# Altium footprint library Infineon Power MOSFET.PcbLib: 137 footprints (part 3 of 9)
Each footprint in its own frame and in the unit in brackets; x right, y up, seen from the top. Pads: shape width x height; smd on the part's side, far side on the other; paste and mask are expansions set on the pad; w line width, h text height; cw(c..) or ccw(c..) is an arc to the next point about the centre after c.
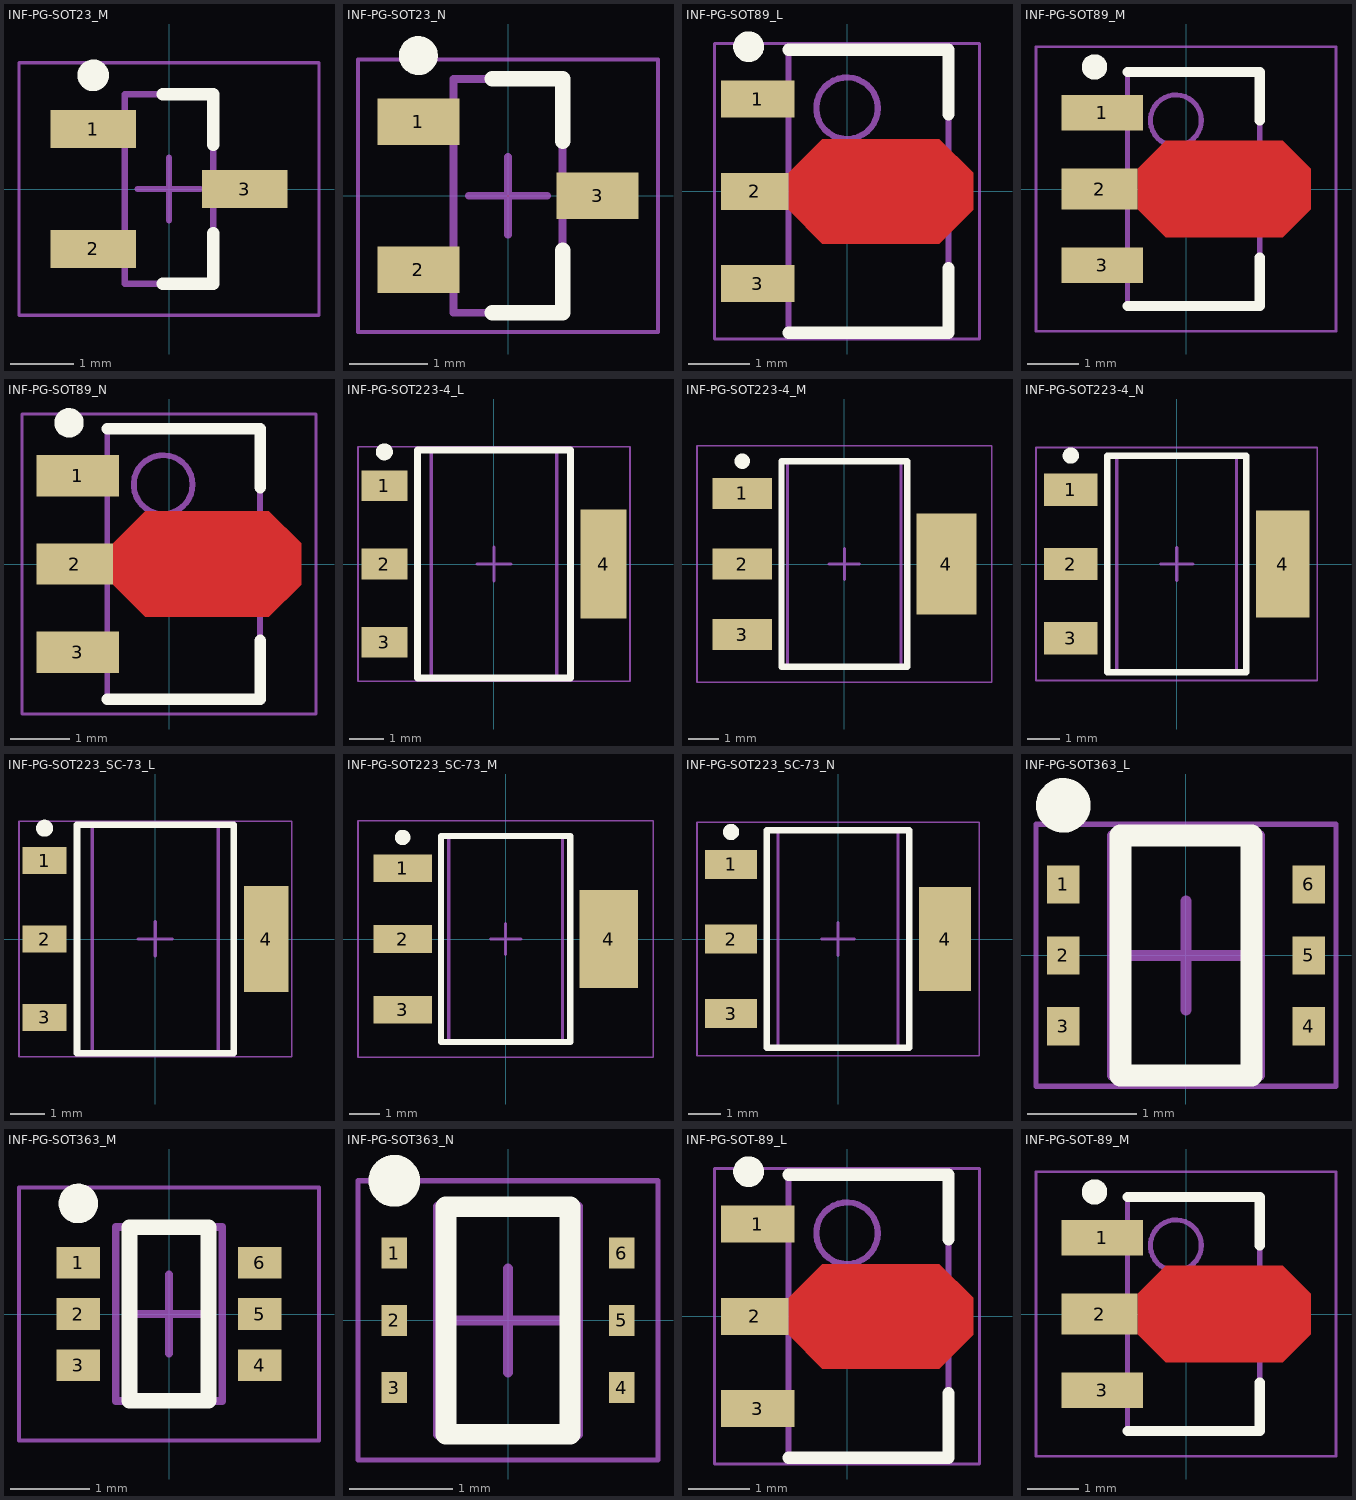
[diagram p2: the footprints below, top view; thin cyan lines are the x and y axes]

## INF-PG-SOT23_M [mm] "SOT23, 3-Leads, Body 2.9x1.3mm, Pitch 0.95mm, IPC Low Density"
height 1.1
pads (3):
  rect 1.35x0.6 smd: 1(-1.2,0.95) 2(-1.2,-0.95) 3(1.2,0)
Top Overlay:
  circle w0.25: c-1.2,1.8 r0.125
  lines w0.2: -0.1,-1.5 0.7,-1.5 0.7,-0.7 ; -0.1,1.5 0.7,1.5 0.7,0.7
Mechanical 13:
  lines w0.1: -0.7,-1.5 -0.7,1.5 0.7,1.5 0.7,-1.5 -0.7,-1.5
Mechanical 15:
  lines w0.05: -2.375,-2 -2.375,2 2.375,2 2.375,-2 -2.375,-2
  lines w0.1: -0.5,0 0.5,0 ; 0,-0.5 0,0.5
3D body: height 1.1, standoff 0.1, extent -0.7,-1.5 0.7,1.5

## INF-PG-SOT23_N [mm] "SOT23, 3-Leads, Body 2.9x1.3mm, Pitch 0.95mm, IPC Medium Density"
height 1.1
pads (3):
  rect 1.05x0.6 smd: 1(-1.15,0.95) 2(-1.15,-0.95) 3(1.15,0)
Top Overlay:
  circle w0.25: c-1.15,1.8 r0.125
  lines w0.2: -0.2,-1.5 0.7,-1.5 0.7,-0.7 ; -0.2,1.5 0.7,1.5 0.7,0.7
Mechanical 13:
  lines w0.1: -0.7,-1.5 -0.7,1.5 0.7,1.5 0.7,-1.5 -0.7,-1.5
Mechanical 15:
  lines w0.05: -1.925,-1.75 -1.925,1.75 1.925,1.75 1.925,-1.75 -1.925,-1.75
  lines w0.1: -0.5,0 0.5,0 ; 0,-0.5 0,0.5
3D body: height 1.1, standoff 0.1, extent -0.7,-1.5 0.7,1.5

## INF-PG-SOT89_L [mm] "SOT89, 3-Leads, Body 4.5x2.5mm, Pitch 1.5mm, IPC High Density"
height 1.6
pads (3):
  rect 1.2x0.6 smd: 1(-1.45,1.5) 3(-1.45,-1.5)
  rect 1.1x0.6 smd: 2(-1.5,0)
Top Layer:
  region: -0.95,0.3 -0.4,0.85 1.5,0.85 2.05,0.3 2.05,-0.3 1.5,-0.85 -0.4,-0.85 -0.95,-0.3
Top Overlay:
  circle w0.25: c-1.6,2.35 r0.125
  lines w0.2: -0.95,-2.3 1.65,-2.3 1.65,-1.25 ; -0.95,2.3 1.65,2.3 1.65,1.25
Mechanical 13:
  circle w0.1: c0,1.35 r0.5
  lines w0.1: -0.95,-2.3 -0.95,2.3 1.65,2.3 1.65,-2.3 -0.95,-2.3
Mechanical 15:
  lines w0.05: -2.15,-2.4 -2.15,2.4 2.15,2.4 2.15,-2.4 -2.15,-2.4
  lines w0.1: -0.15,0 0.85,0 ; 0.35,-0.5 0.35,0.5
3D body: height 1.6, standoff 0, extent -0.95,-2.3 1.65,2.3

## INF-PG-SOT89_M [mm] "SOT89, 3-Leads, Body 4.5x2.5mm, Pitch 1.5mm, IPC Low Density"
height 1.6
pads (3):
  rect 1.6x0.7 smd: 1(-1.65,1.5) 3(-1.65,-1.5)
  rect 1.5x0.8 smd: 2(-1.7,0)
Top Layer:
  region: -0.95,0.4 -0.4,0.95 1.9,0.95 2.45,0.4 2.45,-0.4 1.9,-0.95 -0.4,-0.95 -0.95,-0.4
Top Overlay:
  circle w0.25: c-1.8,2.4 r0.125
  lines w0.2: -1.15,-2.3 1.45,-2.3 1.45,-1.35 ; -1.15,2.3 1.45,2.3 1.45,1.35
Mechanical 13:
  circle w0.1: c-0.2,1.35 r0.5
  lines w0.1: -1.15,-2.3 -1.15,2.3 1.45,2.3 1.45,-2.3 -1.15,-2.3
Mechanical 15:
  lines w0.05: -2.95,-2.8 -2.95,2.8 2.95,2.8 2.95,-2.8 -2.95,-2.8
  lines w0.1: -0.35,0 0.65,0 ; 0.15,-0.5 0.15,0.5
3D body: height 1.6, standoff 0, extent -1.15,-2.3 1.45,2.3

## INF-PG-SOT89_N [mm] "SOT89, 3-Leads, Body 4.5x2.5mm, Pitch 1.5mm, IPC Medium Density"
height 1.6
pads (3):
  rect 1.4x0.7 smd: 1(-1.55,1.5) 3(-1.55,-1.5)
  rect 1.3x0.7 smd: 2(-1.6,0)
Top Layer:
  region: -0.95,0.35 -0.4,0.9 1.7,0.9 2.25,0.35 2.25,-0.35 1.7,-0.9 -0.4,-0.9 -0.95,-0.35
Top Overlay:
  circle w0.25: c-1.7,2.4 r0.125
  lines w0.2: -1.05,-2.3 1.55,-2.3 1.55,-1.3 ; -1.05,2.3 1.55,2.3 1.55,1.3
Mechanical 13:
  circle w0.1: c-0.1,1.35 r0.5
  lines w0.1: -1.05,-2.3 -1.05,2.3 1.55,2.3 1.55,-2.3 -1.05,-2.3
Mechanical 15:
  lines w0.05: -2.5,-2.55 -2.5,2.55 2.5,2.55 2.5,-2.55 -2.5,-2.55
  lines w0.1: -0.25,0 0.75,0 ; 0.25,-0.5 0.25,0.5
3D body: height 1.6, standoff 0, extent -1.05,-2.3 1.55,2.3

## INF-PG-SOT223-4_L [mm] "SOT223, 4-Leads, Body 6.5x3.5mm, Pitch 2.3mm, IPC High Density"
height 1.8
pads (4):
  rect 1.35x0.9 smd: 1(-3.225,2.3) 2(-3.225,0) 3(-3.225,-2.3)
  rect 1.35x3.2 smd: 4(3.225,0)
Top Overlay:
  circle w0.25: c-3.225,3.3 r0.125
  lines w0.2: -2.25,-3.35 -2.25,3.35 2.25,3.35 2.25,-3.35 -2.25,-3.35
Mechanical 13:
  lines w0.1: -1.85,-3.35 -1.85,3.35 1.85,3.35 1.85,-3.35 -1.85,-3.35
Mechanical 15:
  lines w0.05: -4,-3.45 -4,3.45 4,3.45 4,-3.45 -4,-3.45
  lines w0.1: -0.5,0 0.5,0 ; 0,-0.5 0,0.5
3D body: height 1.8, standoff 0.1, extent -1.85,-3.35 1.85,3.35

## INF-PG-SOT223-4_M [mm] "SOT223, 4-Leads, Body 6.5x3.5mm, Pitch 2.3mm, IPC Low Density"
height 1.8
pads (4):
  rect 1.95x1 smd: 1(-3.325,2.3) 2(-3.325,0) 3(-3.325,-2.3)
  rect 1.95x3.3 smd: 4(3.325,0)
Top Overlay:
  circle w0.25: c-3.325,3.35 r0.125
  lines w0.2: -2.05,-3.35 -2.05,3.35 2.05,3.35 2.05,-3.35 -2.05,-3.35
Mechanical 13:
  lines w0.1: -1.85,-3.35 -1.85,3.35 1.85,3.35 1.85,-3.35 -1.85,-3.35
Mechanical 15:
  lines w0.05: -4.8,-3.85 -4.8,3.85 4.8,3.85 4.8,-3.85 -4.8,-3.85
  lines w0.1: -0.5,0 0.5,0 ; 0,-0.5 0,0.5
3D body: height 1.8, standoff 0.1, extent -1.85,-3.35 1.85,3.35

## INF-PG-SOT223-4_N [mm] "SOT223, 4-Leads, Body 6.5x3.5mm, Pitch 2.3mm, IPC Medium Density"
height 1.8
pads (4):
  rect 1.65x1 smd: 1(-3.275,2.3) 2(-3.275,0) 3(-3.275,-2.3)
  rect 1.65x3.3 smd: 4(3.275,0)
Top Overlay:
  circle w0.25: c-3.275,3.35 r0.125
  lines w0.2: -2.15,-3.35 -2.15,3.35 2.15,3.35 2.15,-3.35 -2.15,-3.35
Mechanical 13:
  lines w0.1: -1.85,-3.35 -1.85,3.35 1.85,3.35 1.85,-3.35 -1.85,-3.35
Mechanical 15:
  lines w0.05: -4.35,-3.6 -4.35,3.6 4.35,3.6 4.35,-3.6 -4.35,-3.6
  lines w0.1: -0.5,0 0.5,0 ; 0,-0.5 0,0.5
3D body: height 1.8, standoff 0.1, extent -1.85,-3.35 1.85,3.35

## INF-PG-SOT223_SC-73_L [mm] "SOT223, 4-Leads, Body 6.5x3.5mm, Pitch 2.3mm, IPC High Density"
height 1.8
pads (4):
  rect 1.3x0.8 smd: 1(-3.25,2.3) 2(-3.25,0) 3(-3.25,-2.3)
  rect 1.3x3.1 smd: 4(3.25,0)
Top Overlay:
  circle w0.25: c-3.25,3.25 r0.125
  lines w0.2: -2.3,-3.35 -2.3,3.35 2.3,3.35 2.3,-3.35 -2.3,-3.35
Mechanical 13:
  lines w0.1: -1.85,-3.35 -1.85,3.35 1.85,3.35 1.85,-3.35 -1.85,-3.35
Mechanical 15:
  lines w0.05: -4,-3.45 -4,3.45 4,3.45 4,-3.45 -4,-3.45
  lines w0.1: -0.5,0 0.5,0 ; 0,-0.5 0,0.5
3D body: height 1.8, standoff 0.1, extent -1.85,-3.35 1.85,3.35

## INF-PG-SOT223_SC-73_M [mm] "SOT223, 4-Leads, Body 6.5x3.5mm, Pitch 2.3mm, IPC Low Density"
height 1.8
pads (4):
  rect 1.9x0.9 smd: 1(-3.35,2.3) 2(-3.35,0) 3(-3.35,-2.3)
  rect 1.9x3.2 smd: 4(3.35,0)
Top Overlay:
  circle w0.25: c-3.35,3.3 r0.125
  lines w0.2: -2.1,-3.35 -2.1,3.35 2.1,3.35 2.1,-3.35 -2.1,-3.35
Mechanical 13:
  lines w0.1: -1.85,-3.35 -1.85,3.35 1.85,3.35 1.85,-3.35 -1.85,-3.35
Mechanical 15:
  lines w0.05: -4.8,-3.85 -4.8,3.85 4.8,3.85 4.8,-3.85 -4.8,-3.85
  lines w0.1: -0.5,0 0.5,0 ; 0,-0.5 0,0.5
3D body: height 1.8, standoff 0.1, extent -1.85,-3.35 1.85,3.35

## INF-PG-SOT223_SC-73_N [mm] "SOT223, 4-Leads, Body 6.5x3.5mm, Pitch 2.3mm, IPC Medium Density"
height 1.8
pads (4):
  rect 1.6x0.9 smd: 1(-3.3,2.3) 2(-3.3,0) 3(-3.3,-2.3)
  rect 1.6x3.2 smd: 4(3.3,0)
Top Overlay:
  circle w0.25: c-3.3,3.3 r0.125
  lines w0.2: -2.2,-3.35 -2.2,3.35 2.2,3.35 2.2,-3.35 -2.2,-3.35
Mechanical 13:
  lines w0.1: -1.85,-3.35 -1.85,3.35 1.85,3.35 1.85,-3.35 -1.85,-3.35
Mechanical 15:
  lines w0.05: -4.35,-3.6 -4.35,3.6 4.35,3.6 4.35,-3.6 -4.35,-3.6
  lines w0.1: -0.5,0 0.5,0 ; 0,-0.5 0,0.5
3D body: height 1.8, standoff 0.1, extent -1.85,-3.35 1.85,3.35

## INF-PG-SOT363_L [mm] "SOT23, 3-Leads, Body 2x1.25mm, Pitch 0.65mm, IPC High Density"
height 1
pads (6):
  rect 0.3x0.35 smd: 1(-1.125,0.65) 2(-1.125,0) 3(-1.125,-0.65) 4(1.125,-0.65) 5(1.125,0) 6(1.125,0.65)
Top Overlay:
  circle w0.25: c-1.125,1.375 r0.125
  lines w0.2: -0.6,-1.1 -0.6,1.1 0.6,1.1 0.6,-1.1 -0.6,-1.1
Mechanical 13:
  lines w0.1: -0.675,-1.1 0.675,-1.1 0.675,1.1 -0.675,1.1 -0.675,-1.1
Mechanical 15:
  lines w0.05: -1.375,-1.2 1.375,-1.2 1.375,1.2 -1.375,1.2 -1.375,-1.2
  lines w0.1: -0.5,0 0.5,0 ; 0,-0.5 0,0.5
3D body: height 1, standoff 0.1, extent -0.675,-1.1 0.675,1.1

## INF-PG-SOT363_M [mm] "SOT23, 3-Leads, Body 2x1.25mm, Pitch 0.65mm, IPC Low Density"
height 1
pads (6):
  rect 0.55x0.4 smd: 1(-1.15,0.65) 2(-1.15,0) 3(-1.15,-0.65) 4(1.15,-0.65) 5(1.15,0) 6(1.15,0.65)
Top Overlay:
  circle w0.25: c-1.15,1.4 r0.125
  lines w0.2: -0.5,-1.1 -0.5,1.1 0.5,1.1 0.5,-1.1 -0.5,-1.1
Mechanical 13:
  lines w0.1: -0.675,-1.1 0.675,-1.1 0.675,1.1 -0.675,1.1 -0.675,-1.1
Mechanical 15:
  lines w0.05: -1.9,-1.6 1.9,-1.6 1.9,1.6 -1.9,1.6 -1.9,-1.6
  lines w0.1: -0.5,0 0.5,0 ; 0,-0.5 0,0.5
3D body: height 1, standoff 0.1, extent -0.675,-1.1 0.675,1.1

## INF-PG-SOT363_N [mm] "SOT23, 3-Leads, Body 2x1.25mm, Pitch 0.65mm, IPC Medium Density"
height 1
pads (6):
  rect 0.25x0.3 smd: 1(-1.1,0.65) 2(-1.1,0) 3(-1.1,-0.65) 4(1.1,-0.65) 5(1.1,0) 6(1.1,0.65)
Top Overlay:
  circle w0.25: c-1.1,1.35 r0.125
  lines w0.2: -0.6,-1.1 -0.6,1.1 0.6,1.1 0.6,-1.1 -0.6,-1.1
Mechanical 13:
  lines w0.1: -0.675,-1.1 0.675,-1.1 0.675,1.1 -0.675,1.1 -0.675,-1.1
Mechanical 15:
  lines w0.05: -1.45,-1.35 1.45,-1.35 1.45,1.35 -1.45,1.35 -1.45,-1.35
  lines w0.1: -0.5,0 0.5,0 ; 0,-0.5 0,0.5
3D body: height 1, standoff 0.1, extent -0.675,-1.1 0.675,1.1

## INF-PG-SOT-89_L [mm] "SOT89, 3-Leads, Body 4.5x2.5mm, Pitch 1.5mm, IPC High Density"
height 1.6
pads (3):
  rect 1.2x0.6 smd: 1(-1.45,1.5) 3(-1.45,-1.5)
  rect 1.1x0.6 smd: 2(-1.5,0)
Top Layer:
  region: -0.95,0.3 -0.4,0.85 1.5,0.85 2.05,0.3 2.05,-0.3 1.5,-0.85 -0.4,-0.85 -0.95,-0.3
Top Overlay:
  circle w0.25: c-1.6,2.35 r0.125
  lines w0.2: -0.95,-2.3 1.65,-2.3 1.65,-1.25 ; -0.95,2.3 1.65,2.3 1.65,1.25
Mechanical 13:
  circle w0.1: c0,1.35 r0.5
  lines w0.1: -0.95,-2.3 -0.95,2.3 1.65,2.3 1.65,-2.3 -0.95,-2.3
Mechanical 15:
  lines w0.05: -2.15,-2.4 -2.15,2.4 2.15,2.4 2.15,-2.4 -2.15,-2.4
  lines w0.1: -0.15,0 0.85,0 ; 0.35,-0.5 0.35,0.5
3D body: height 1.6, standoff 0, extent -0.95,-2.3 1.65,2.3

## INF-PG-SOT-89_M [mm] "SOT89, 3-Leads, Body 4.5x2.5mm, Pitch 1.5mm, IPC Low Density"
height 1.6
pads (3):
  rect 1.6x0.7 smd: 1(-1.65,1.5) 3(-1.65,-1.5)
  rect 1.5x0.8 smd: 2(-1.7,0)
Top Layer:
  region: -0.95,0.4 -0.4,0.95 1.9,0.95 2.45,0.4 2.45,-0.4 1.9,-0.95 -0.4,-0.95 -0.95,-0.4
Top Overlay:
  circle w0.25: c-1.8,2.4 r0.125
  lines w0.2: -1.15,-2.3 1.45,-2.3 1.45,-1.35 ; -1.15,2.3 1.45,2.3 1.45,1.35
Mechanical 13:
  circle w0.1: c-0.2,1.35 r0.5
  lines w0.1: -1.15,-2.3 -1.15,2.3 1.45,2.3 1.45,-2.3 -1.15,-2.3
Mechanical 15:
  lines w0.05: -2.95,-2.8 -2.95,2.8 2.95,2.8 2.95,-2.8 -2.95,-2.8
  lines w0.1: -0.35,0 0.65,0 ; 0.15,-0.5 0.15,0.5
3D body: height 1.6, standoff 0, extent -1.15,-2.3 1.45,2.3